# Altium footprint library CI160808-2N2D.PcbLib: 1 footprints
Each footprint in its own frame and in the unit in brackets; x right, y up, seen from the top. Pads: shape width x height; smd on the part's side, far side on the other; paste and mask are expansions set on the pad; w line width, h text height; cw(c..) or ccw(c..) is an arc to the next point about the centre after c.
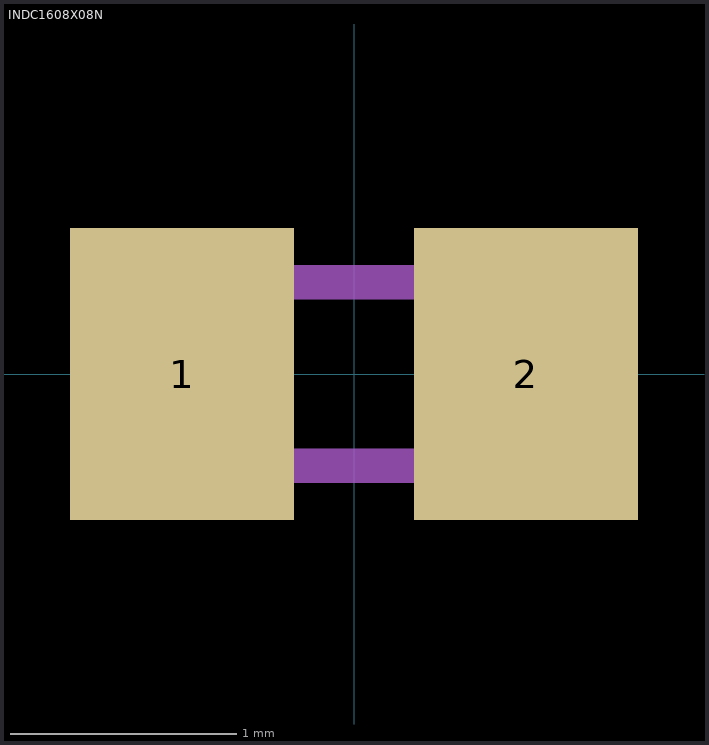
[diagram p0: the footprint, top view; thin cyan lines are the x and y axes]

## INDC1608X08N [mil]
pads (2):
  rect 39x51 smd: 1(-30,0) 2(30,0)
Mechanical 13:
  lines w6: -31,-16 -31,16 31,16 31,-16 -31,-16